# Altium footprint library SS59ET.PcbLib: 3 footprints
Each footprint in its own frame and in the unit in brackets; x right, y up, seen from the top. Pads: shape width x height; smd on the part's side, far side on the other; paste and mask are expansions set on the pad; w line width, h text height; cw(c..) or ccw(c..) is an arc to the next point about the centre after c.
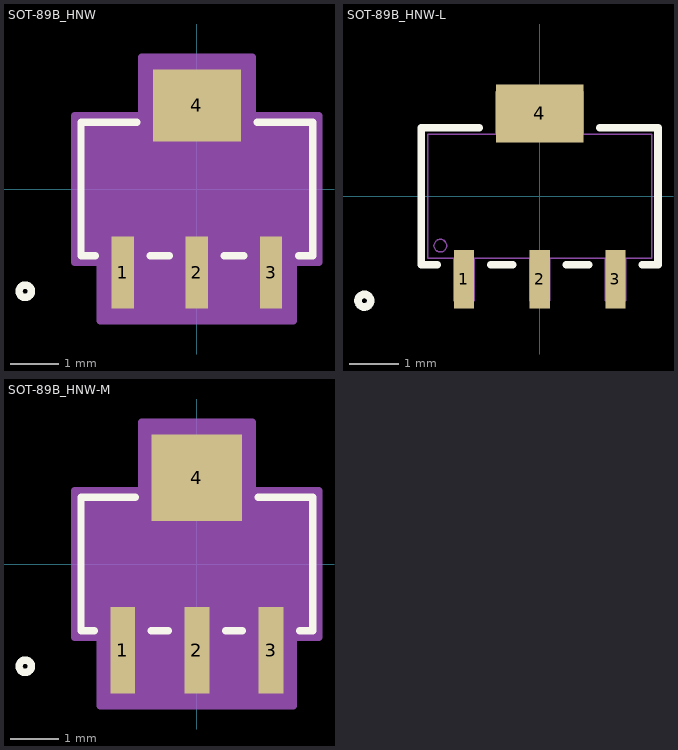
[diagram p0: the footprints below, top view; thin cyan lines are the x and y axes]

## SOT-89B_HNW [mil]
pads (4):
  rect 18x58 smd paste+0 mask+0: 1(-59.84,-67.5) 2(0,-67.5) 3(59.84,-67.5)
  rect 71x58 smd paste+0 mask+0: 4(0,67.5)
Top Overlay:
  circle w6: c-138.5,-82.5 r5
  lines w6: -81.94,-54 -93.5,-54 -93.5,54 -48.6,54 ; -37.74,-54 -22.1,-54 ; 22.1,-54 37.74,-54 ; 48.6,54 93.5,54 93.5,-54 81.94,-54
  text ".Designator" at -137.5,-25 h50
Mechanical 13:
  circle w1: c-78.5,-39 r5
  lines w1: -88.5,-49 88.5,-49 88.5,49 -88.5,49 -88.5,-49 ; -67.84,-82.5 -67.84,-49 -51.84,-49 -51.84,-82.5 -67.84,-82.5 ; -34.5,49 34.5,49 34.5,82.5 -34.5,82.5 -34.5,49 ; -8,-82.5 -8,-49 8,-49 8,-82.5 -8,-82.5 ; 51.84,-82.5 51.84,-49 67.84,-49 67.84,-82.5 51.84,-82.5
  text ".Designator" at -137.5,-25 h50
Mechanical 15:
  region: -98.5,-59 -98.5,59 -44.5,59 -44.5,106.5 44.5,106.5 44.5,59 98.5,59 98.5,-59 77.84,-59 77.84,-106.5 -77.84,-106.5 -77.84,-59
  lines w6: -98.5,-59 -98.5,59 -44.5,59 -44.5,106.5 44.5,106.5 44.5,59 98.5,59 98.5,-59 77.84,-59 77.84,-106.5 -77.84,-106.5 -77.84,-59 -98.5,-59
3D body "SOT-89B_HNW.step": height 51.1, standoff 0, extent -88.5,-82.52 88.5,82.52

## SOT-89B_HNW-L [mil]
pads (4):
  rect 16x46 smd paste+0 mask+0: 1(-59.84,-65.5) 2(0,-65.5) 3(59.84,-65.5)
  rect 69x46 smd paste+0 mask+0: 4(0,65.5)
Top Overlay:
  circle w6: c-138.5,-82.5 r5
  lines w6: -80.94,-54 -93.5,-54 -93.5,54 -47.6,54 ; -38.74,-54 -21.1,-54 ; 21.1,-54 38.74,-54 ; 47.6,54 93.5,54 93.5,-54 80.94,-54
  text ".Designator" at -137.5,-25 h50
Mechanical 13:
  circle w1: c-78.5,-39 r5
  lines w1: -88.5,-49 -88.5,49 88.5,49 88.5,-49 -88.5,-49 ; -67.84,-82.5 -51.84,-82.5 -51.84,-49 -67.84,-49 -67.84,-82.5 ; -34.5,49 -34.5,82.5 34.5,82.5 34.5,49 -34.5,49 ; -8,-82.5 8,-82.5 8,-49 -8,-49 -8,-82.5 ; 51.84,-82.5 67.84,-82.5 67.84,-49 51.84,-49 51.84,-82.5
  text ".Designator" at -137.5,-25 h50
3D body "SOT-89B_HNW.step": height 51.1, standoff 0, extent -88.5,-82.52 88.5,82.52

## SOT-89B_HNW-M [mil]
pads (4):
  rect 20x70 smd paste+0 mask+0: 1(-59.84,-69.5) 2(0,-69.5) 3(59.84,-69.5)
  rect 73x70 smd paste+0 mask+0: 4(0,69.5)
Top Overlay:
  circle w6: c-138.5,-82.5 r5
  lines w6: -82.94,-54 -93.5,-54 -93.5,54 -49.6,54 ; -36.74,-54 -23.1,-54 ; 23.1,-54 36.74,-54 ; 49.6,54 93.5,54 93.5,-54 82.94,-54
  text ".Designator" at -137.5,-25 h50
Mechanical 13:
  circle w1: c-78.5,-39 r5
  lines w1: -88.5,-49 88.5,-49 88.5,49 -88.5,49 -88.5,-49 ; -67.84,-82.5 -67.84,-49 -51.84,-49 -51.84,-82.5 -67.84,-82.5 ; -34.5,49 34.5,49 34.5,82.5 -34.5,82.5 -34.5,49 ; -8,-82.5 -8,-49 8,-49 8,-82.5 -8,-82.5 ; 51.84,-82.5 51.84,-49 67.84,-49 67.84,-82.5 51.84,-82.5
  text ".Designator" at -137.5,-25 h50
Mechanical 15:
  region: -98.5,-59 -98.5,59 -44.5,59 -44.5,114.5 44.5,114.5 44.5,59 98.5,59 98.5,-59 77.84,-59 77.84,-114.5 -77.84,-114.5 -77.84,-59
  lines w6: -98.5,-59 -98.5,59 -44.5,59 -44.5,114.5 44.5,114.5 44.5,59 98.5,59 98.5,-59 77.84,-59 77.84,-114.5 -77.84,-114.5 -77.84,-59 -98.5,-59
3D body "SOT-89B_HNW.step": height 51.1, standoff 0, extent -88.5,-82.52 88.5,82.52